# EAGLE library part DAC8551 (library ICs)
Digital to Analogue Converter, 16 bit, 200 kSPS, Serial, 2.7V to 5.5V, SOP, 8
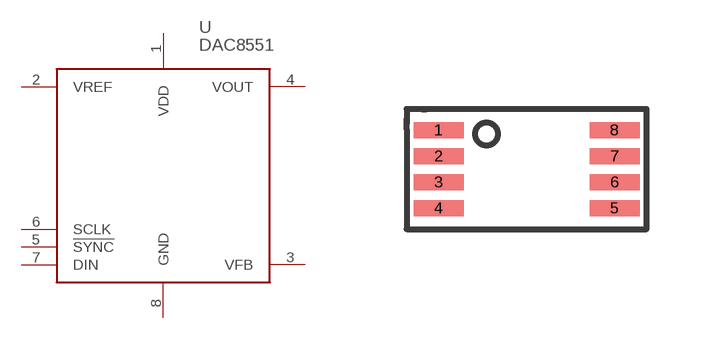
[diagram p72: symbol with the pads of MSOP8; footprint MSOP8]

Designator prefix U

## DAC8551 (FARNELL: 1390682; PRICE_PER: 4.756; VALUE: DAC8551)  [MSOP8]
1  VDD
2  VREF
3  VFB
4  VOUT
5  !SYNC
6  SCLK
7  DIN
8  GND

## Footprint MSOP8 (pad centres in mm)
smd 1.25 x 0.4: 1 -2.2,0.975; 2 -2.2,0.325; 3 -2.2,-0.325; 4 -2.2,-0.975; 5 2.2,-0.975; 6 2.2,-0.325; 7 2.2,0.325; 8 2.2,0.975